# Altium schematic symbol library LTC2642CDD-12.SchLib: 1 symbol
Pins are listed as number, name and electrical type; pins without a type are passive.

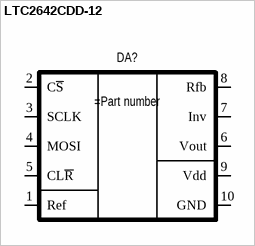
[diagram p0: symbol LTC2642CDD-12]

## LTC2642CDD-12
designator DA?
12-Bit VOUT DACs
pins: 1 Ref, 2 C~{S}, 3 SCLK, 4 MOSI, 5 CL~{R}, 6 Vout, 7 Inv, 8 Rfb, 9 Vdd, 10 GND